# Altium schematic symbol library 1676285-1.SchLib: 1 symbol
Pins are listed as number, name and electrical type; pins without a type are passive.

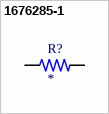
[diagram p0: symbol 1676285-1]

## 1676285-1
designator R?
RN 0805 2K21 0.1% 10PPM CUT LENGTH; MP: 1676285-1; Package: None; Price: None; Value: *; Availability: Unavailable
footprint RESC2012X65N
pins: 1, 2